# Altium integrated library ERJ-6GEYJ151V.IntLib: 1 symbol
Pins are listed as number, name and electrical type; pins without a type are passive.

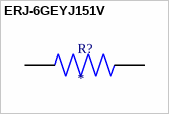
[diagram p0: symbol ERJ-6GEYJ151V]

## ERJ-6GEYJ151V
designator R?
Res Thick Film 0805 150 Ohm 5% 0.125W(1/8W) Â}200ppm/ÂÂŽ Molded SMD Automotive T/R; MP: ERJ-6GEYJ151V; Package: None; Price: None; Value: *; Availability: Unavailable
footprint RESC2012X70N
pins: 1, 2